# Altium integrated library WE-TIF_rev15a.intlib: 22 symbols
Pins are listed as number, name and electrical type; pins without a type are passive.

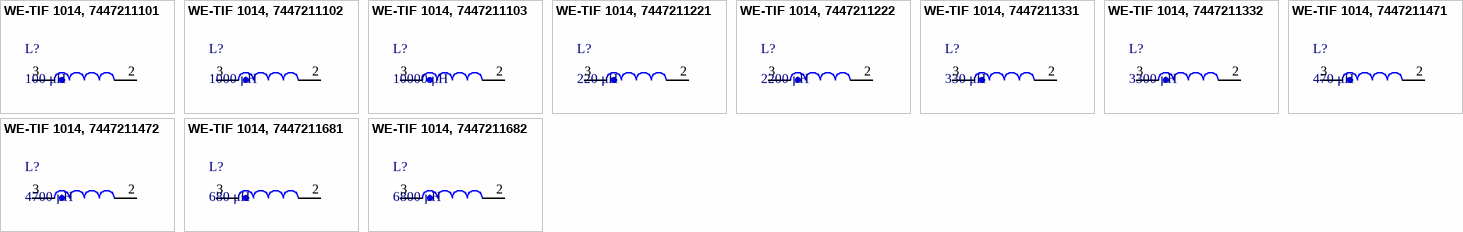
[diagram p0: symbols WE-TIF 1014, 7447211101 to WE-TIF 1014, 7447211682]

## WE-TIF 1014, 7447211101
designator L?, comment 100 μH
WE-TIF Radial Leaded Wire Wound Inductor, Inductance = 100 μH; partNo: 7447211101; Manufacturer: Wurth Elektronik; Inductance: 100 μH; ComponentLink1Description: Manufacturer; ComponentLink1URL: http://www.we-online.de; Created by: Baojun Chen; Created Date: Nov.2015; ComponentLink2Description: Datasheet; ComponentLink2URL: http://katalog.we-online.de/pbs/datasheet/7447211101.pdf
footprint WE-TIF_1014
pins: 2, 3

## WE-TIF 1014, 7447211102
designator L?, comment 1000 μH
WE-TIF Radial Leaded Wire Wound Inductor, Inductance = 1000 μH; partNo: 7447211102; Manufacturer: Wurth Elektronik; Inductance: 1000 μH; ComponentLink1Description: Manufacturer; ComponentLink1URL: http://www.we-online.de; Created by: Baojun Chen; Created Date: Nov.2015; ComponentLink2Description: Datasheet; ComponentLink2URL: http://katalog.we-online.de/pbs/datasheet/7447211102.pdf
footprint WE-TIF_1014
pins: 2, 3

## WE-TIF 1014, 7447211103
designator L?, comment 10000 μH
WE-TIF Radial Leaded Wire Wound Inductor, Inductance = 10000 μH; partNo: 7447211103; Manufacturer: Wurth Elektronik; Inductance: 10000 μH; ComponentLink1Description: Manufacturer; ComponentLink1URL: http://www.we-online.de; Created by: Baojun Chen; Created Date: Nov.2015; ComponentLink2Description: Datasheet; ComponentLink2URL: http://katalog.we-online.de/pbs/datasheet/7447211103.pdf
footprint WE-TIF_1014
pins: 2, 3

## WE-TIF 1014, 7447211221
designator L?, comment 220 μH
WE-TIF Radial Leaded Wire Wound Inductor, Inductance = 220 μH; partNo: 7447211221; Manufacturer: Wurth Elektronik; Inductance: 220 μH; ComponentLink1Description: Manufacturer; ComponentLink1URL: http://www.we-online.de; Created by: Baojun Chen; Created Date: Nov.2015; ComponentLink2Description: Datasheet; ComponentLink2URL: http://katalog.we-online.de/pbs/datasheet/7447211221.pdf
footprint WE-TIF_1014
pins: 2, 3

## WE-TIF 1014, 7447211222
designator L?, comment 2200 μH
WE-TIF Radial Leaded Wire Wound Inductor, Inductance = 2200 μH; partNo: 7447211222; Manufacturer: Wurth Elektronik; Inductance: 2200 μH; ComponentLink1Description: Manufacturer; ComponentLink1URL: http://www.we-online.de; Created by: Baojun Chen; Created Date: Nov.2015; ComponentLink2Description: Datasheet; ComponentLink2URL: http://katalog.we-online.de/pbs/datasheet/7447211222.pdf
footprint WE-TIF_1014
pins: 2, 3

## WE-TIF 1014, 7447211331
designator L?, comment 330 μH
WE-TIF Radial Leaded Wire Wound Inductor, Inductance = 330 μH; partNo: 7447211331; Manufacturer: Wurth Elektronik; Inductance: 330 μH; ComponentLink1Description: Manufacturer; ComponentLink1URL: http://www.we-online.de; Created by: Baojun Chen; Created Date: Nov.2015; ComponentLink2Description: Datasheet; ComponentLink2URL: http://katalog.we-online.de/pbs/datasheet/7447211331.pdf
footprint WE-TIF_1014
pins: 2, 3

## WE-TIF 1014, 7447211332
designator L?, comment 3300 μH
WE-TIF Radial Leaded Wire Wound Inductor, Inductance = 3300 μH; partNo: 7447211332; Manufacturer: Wurth Elektronik; Inductance: 3300 μH; ComponentLink1Description: Manufacturer; ComponentLink1URL: http://www.we-online.de; Created by: Baojun Chen; Created Date: Nov.2015; ComponentLink2Description: Datasheet; ComponentLink2URL: http://katalog.we-online.de/pbs/datasheet/7447211332.pdf
footprint WE-TIF_1014
pins: 2, 3

## WE-TIF 1014, 7447211471
designator L?, comment 470 μH
WE-TIF Radial Leaded Wire Wound Inductor, Inductance = 470 μH; partNo: 7447211471; Manufacturer: Wurth Elektronik; Inductance: 470 μH; ComponentLink1Description: Manufacturer; ComponentLink1URL: http://www.we-online.de; Created by: Baojun Chen; Created Date: Nov.2015; ComponentLink2Description: Datasheet; ComponentLink2URL: http://katalog.we-online.de/pbs/datasheet/7447211471.pdf
footprint WE-TIF_1014
pins: 2, 3

## WE-TIF 1014, 7447211472
designator L?, comment 4700 μH
WE-TIF Radial Leaded Wire Wound Inductor, Inductance = 4700 μH; partNo: 7447211472; Manufacturer: Wurth Elektronik; Inductance: 4700 μH; ComponentLink1Description: Manufacturer; ComponentLink1URL: http://www.we-online.de; Created by: Baojun Chen; Created Date: Nov.2015; ComponentLink2Description: Datasheet; ComponentLink2URL: http://katalog.we-online.de/pbs/datasheet/7447211472.pdf
footprint WE-TIF_1014
pins: 2, 3

## WE-TIF 1014, 7447211681
designator L?, comment 680 μH
WE-TIF Radial Leaded Wire Wound Inductor, Inductance = 680 μH; partNo: 7447211681; Manufacturer: Wurth Elektronik; Inductance: 680 μH; ComponentLink1Description: Manufacturer; ComponentLink1URL: http://www.we-online.de; Created by: Baojun Chen; Created Date: Nov.2015; ComponentLink2Description: Datasheet; ComponentLink2URL: http://katalog.we-online.de/pbs/datasheet/7447211681.pdf
footprint WE-TIF_1014
pins: 2, 3

## WE-TIF 1014, 7447211682
designator L?, comment 6800 μH
WE-TIF Radial Leaded Wire Wound Inductor, Inductance = 6800 μH; partNo: 7447211682; Manufacturer: Wurth Elektronik; Inductance: 6800 μH; ComponentLink1Description: Manufacturer; ComponentLink1URL: http://www.we-online.de; Created by: Baojun Chen; Created Date: Nov.2015; ComponentLink2Description: Datasheet; ComponentLink2URL: http://katalog.we-online.de/pbs/datasheet/7447211682.pdf
footprint WE-TIF_1014
pins: 2, 3


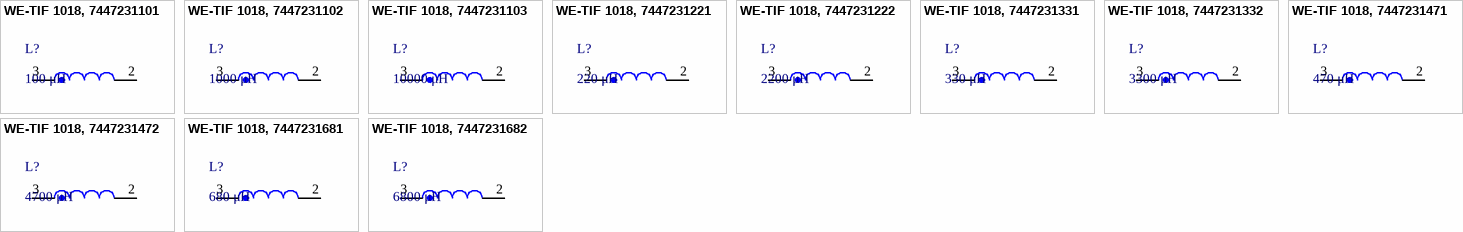
[diagram p1: symbols WE-TIF 1018, 7447231101 to WE-TIF 1018, 7447231682]

## WE-TIF 1018, 7447231101
designator L?, comment 100 μH
WE-TIF Radial Leaded Wire Wound Inductor, Inductance = 100 μH; partNo: 7447231101; Manufacturer: Wurth Elektronik; Inductance: 100 μH; ComponentLink1Description: Manufacturer; ComponentLink1URL: http://www.we-online.de; Created by: Baojun Chen; Created Date: Nov.2015; ComponentLink2Description: Datasheet; ComponentLink2URL: http://katalog.we-online.de/pbs/datasheet/7447231101.pdf
footprint WE-TIF_1018
pins: 2, 3

## WE-TIF 1018, 7447231102
designator L?, comment 1000 μH
WE-TIF Radial Leaded Wire Wound Inductor, Inductance = 1000 μH; partNo: 7447231102; Manufacturer: Wurth Elektronik; Inductance: 1000 μH; ComponentLink1Description: Manufacturer; ComponentLink1URL: http://www.we-online.de; Created by: Baojun Chen; Created Date: Nov.2015; ComponentLink2Description: Datasheet; ComponentLink2URL: http://katalog.we-online.de/pbs/datasheet/7447231102.pdf
footprint WE-TIF_1018
pins: 2, 3

## WE-TIF 1018, 7447231103
designator L?, comment 10000 μH
WE-TIF Radial Leaded Wire Wound Inductor, Inductance = 10000 μH; partNo: 7447231103; Manufacturer: Wurth Elektronik; Inductance: 10000 μH; ComponentLink1Description: Manufacturer; ComponentLink1URL: http://www.we-online.de; Created by: Baojun Chen; Created Date: Nov.2015; ComponentLink2Description: Datasheet; ComponentLink2URL: http://katalog.we-online.de/pbs/datasheet/7447231103.pdf
footprint WE-TIF_1018
pins: 2, 3

## WE-TIF 1018, 7447231221
designator L?, comment 220 μH
WE-TIF Radial Leaded Wire Wound Inductor, Inductance = 220 μH; partNo: 7447231221; Manufacturer: Wurth Elektronik; Inductance: 220 μH; ComponentLink1Description: Manufacturer; ComponentLink1URL: http://www.we-online.de; Created by: Baojun Chen; Created Date: Nov.2015; ComponentLink2Description: Datasheet; ComponentLink2URL: http://katalog.we-online.de/pbs/datasheet/7447231221.pdf
footprint WE-TIF_1018
pins: 2, 3

## WE-TIF 1018, 7447231222
designator L?, comment 2200 μH
WE-TIF Radial Leaded Wire Wound Inductor, Inductance = 2200 μH; partNo: 7447231222; Manufacturer: Wurth Elektronik; Inductance: 2200 μH; ComponentLink1Description: Manufacturer; ComponentLink1URL: http://www.we-online.de; Created by: Baojun Chen; Created Date: Nov.2015; ComponentLink2Description: Datasheet; ComponentLink2URL: http://katalog.we-online.de/pbs/datasheet/7447231222.pdf
footprint WE-TIF_1018
pins: 2, 3

## WE-TIF 1018, 7447231331
designator L?, comment 330 μH
WE-TIF Radial Leaded Wire Wound Inductor, Inductance = 330 μH; partNo: 7447231331; Manufacturer: Wurth Elektronik; Inductance: 330 μH; ComponentLink1Description: Manufacturer; ComponentLink1URL: http://www.we-online.de; Created by: Baojun Chen; Created Date: Nov.2015; ComponentLink2Description: Datasheet; ComponentLink2URL: http://katalog.we-online.de/pbs/datasheet/7447231331.pdf
footprint WE-TIF_1018
pins: 2, 3

## WE-TIF 1018, 7447231332
designator L?, comment 3300 μH
WE-TIF Radial Leaded Wire Wound Inductor, Inductance = 3300 μH; partNo: 7447231332; Manufacturer: Wurth Elektronik; Inductance: 3300 μH; ComponentLink1Description: Manufacturer; ComponentLink1URL: http://www.we-online.de; Created by: Baojun Chen; Created Date: Nov.2015; ComponentLink2Description: Datasheet; ComponentLink2URL: http://katalog.we-online.de/pbs/datasheet/7447231332.pdf
footprint WE-TIF_1018
pins: 2, 3

## WE-TIF 1018, 7447231471
designator L?, comment 470 μH
WE-TIF Radial Leaded Wire Wound Inductor, Inductance = 470 μH; partNo: 7447231471; Manufacturer: Wurth Elektronik; Inductance: 470 μH; ComponentLink1Description: Manufacturer; ComponentLink1URL: http://www.we-online.de; Created by: Baojun Chen; Created Date: Nov.2015; ComponentLink2Description: Datasheet; ComponentLink2URL: http://katalog.we-online.de/pbs/datasheet/7447231471.pdf
footprint WE-TIF_1018
pins: 2, 3

## WE-TIF 1018, 7447231472
designator L?, comment 4700 μH
WE-TIF Radial Leaded Wire Wound Inductor, Inductance = 4700 μH; partNo: 7447231472; Manufacturer: Wurth Elektronik; Inductance: 4700 μH; ComponentLink1Description: Manufacturer; ComponentLink1URL: http://www.we-online.de; Created by: Baojun Chen; Created Date: Nov.2015; ComponentLink2Description: Datasheet; ComponentLink2URL: http://katalog.we-online.de/pbs/datasheet/7447231472.pdf
footprint WE-TIF_1018
pins: 2, 3

## WE-TIF 1018, 7447231681
designator L?, comment 680 μH
WE-TIF Radial Leaded Wire Wound Inductor, Inductance = 680 μH; partNo: 7447231681; Manufacturer: Wurth Elektronik; Inductance: 680 μH; ComponentLink1Description: Manufacturer; ComponentLink1URL: http://www.we-online.de; Created by: Baojun Chen; Created Date: Nov.2015; ComponentLink2Description: Datasheet; ComponentLink2URL: http://katalog.we-online.de/pbs/datasheet/7447231681.pdf
footprint WE-TIF_1018
pins: 2, 3

## WE-TIF 1018, 7447231682
designator L?, comment 6800 μH
WE-TIF Radial Leaded Wire Wound Inductor, Inductance = 6800 μH; partNo: 7447231682; Manufacturer: Wurth Elektronik; Inductance: 6800 μH; ComponentLink1Description: Manufacturer; ComponentLink1URL: http://www.we-online.de; Created by: Baojun Chen; Created Date: Nov.2015; ComponentLink2Description: Datasheet; ComponentLink2URL: http://katalog.we-online.de/pbs/datasheet/7447231682.pdf
footprint WE-TIF_1018
pins: 2, 3